# Altium schematic symbol library Led.SchLib: 1 symbol
Pins are listed as number, name and electrical type; pins without a type are passive.

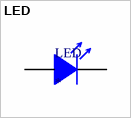
[diagram p0: symbol LED]

## LED
designator LED
footprint led3mm
pins: 1, 2